# Altium schematic symbol library 1379-1.SchLib: 1 symbol
Pins are listed as number, name and electrical type; pins without a type are passive.

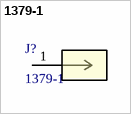
[diagram p0: symbol 1379-1]

## 1379-1
designator J?
Description; Manufacturer_Name: Keystone Electronics; Copyright: Copyright (C) 2025 Ultra Librarian. All rights reserved.; Manufacturer_Part_Number: 1379-1; RefDes: RefDes; Type: Type
footprint CONN_1379-1_KEY
pins: 1